# Altium footprint library PCB - CONNECTOR - TE - TE CONSMA024-G.PcbLib: 1 footprints
Each footprint in its own frame and in the unit in brackets; x right, y up, seen from the top. Pads: shape width x height; smd on the part's side, far side on the other; paste and mask are expansions set on the pad; w line width, h text height; cw(c..) or ccw(c..) is an arc to the next point about the centre after c.
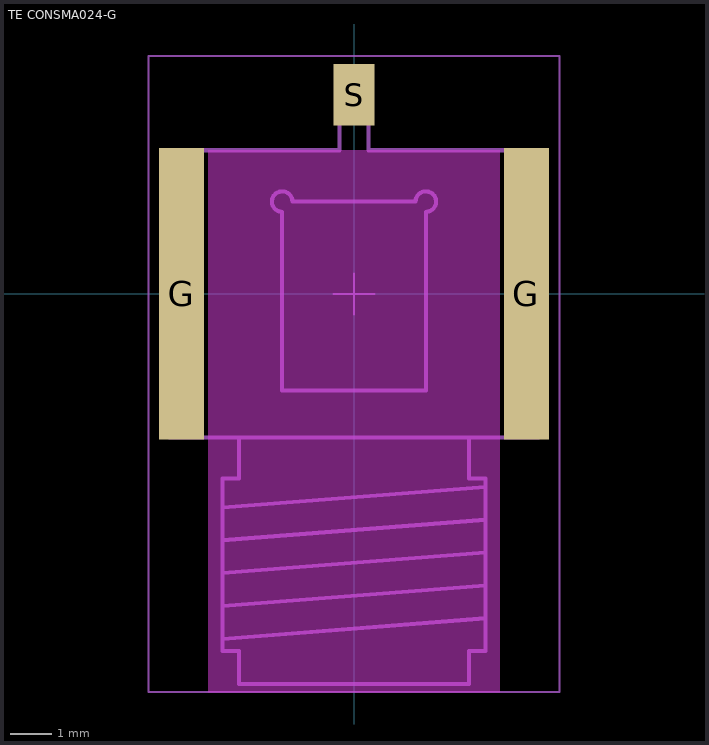
[diagram p0: the footprint, top view; thin cyan lines are the x and y axes]

## TE CONSMA024-G [mm] "SMA PCB End Launch Jack"
height 4
pads (3):
  rect 1.1x7.1 smd paste-2539.97 mask+0.102: G(-4.2,0) G(4.2,0)
  rect 1x1.5 smd: S(0,4.85)
Keep-Out Layer:
  board cut-out: -3.55,-9.7 -3.55,3.5 3.55,3.5 3.55,-9.7
Top 3D Body:
  lines w0.1: -3.2,-8.4 3.2,-7.9 ; -3.2,-7.6 3.2,-7.1 ; -3.2,-6.8 3.2,-6.3 ; -3.2,-6 3.2,-5.5 ; -3.2,-5.2 3.2,-4.7 ; -2.7,-3.5 -2.8,-3.5 -2.8,-4.5 -3.2,-4.5 -3.2,-8.7 -2.8,-8.7 -2.8,-9.5 2.8,-9.5 2.8,-8.7 3.2,-8.7 3.2,-4.5 2.8,-4.5 2.8,-3.5 2.7,-3.5 ; -4.5,-3.5 4.5,-3.5 4.5,3.5 1.35,3.5 0.35,3.5 0.35,5.5 -0.35,5.5 -0.35,3.5 -1.35,3.5 -4.5,3.5 -4.5,-3.5
Bottom 3D Body:
  lines w0.1: -1.75,-2.35 1.75,-2.35 1.75,2 ccw(c1.75,2.25) 1.5,2.25 -1.5,2.25 ccw(c-1.75,2.25) -1.75,2 -1.75,-2.35
  text "PCB Cutout" at -1.5,-0.25 h0.38
Top Courtyard:
  lines w0.05: -0.5,0 0.5,0 ; 0,-0.5 0,0.5 ; -5,-9.7 -5,5.8 5,5.8 5,-9.7 -5,-9.7
3D body "TE CONSMA024-G.step": height 4, standoff -3, extent -4.498,-9.5 4.498,5.5